# EAGLE library part 22AWG_10POS (library nest_interface)
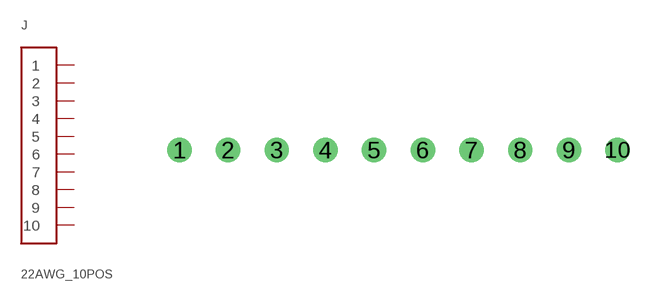
[diagram p9: symbol with the pads of 22AWG_10POS; footprint 22AWG_10POS]

Designator prefix J

## 22AWG_10POS  [22AWG_10POS]
1  1
2  2
3  3
4  4
5  5
6  6
7  7
8  8
9  9
10  10

## Footprint 22AWG_10POS (pad centres in mm)
drill 0.762: 1 -11.43,0; 2 -8.89,0; 3 -6.35,0; 4 -3.81,0; 5 -1.27,0; 6 1.27,0; 7 3.81,0; 8 6.35,0; 9 8.89,0; 10 11.43,0